# Altium schematic symbol library ST-Link V2 Connector.SchLib: 1 symbol
Pins are listed as number, name and electrical type; pins without a type are passive.

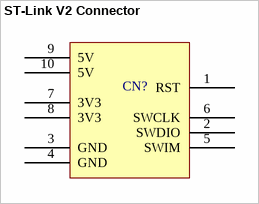
[diagram p0: symbol ST-Link V2 Connector]

## ST-Link V2 Connector
designator CN?
pins: 1 RST, 2 SWDIO, 3 GND, 4 GND, 5 SWIM, 6 SWCLK, 7 3V3, 8 3V3, 9 5V, 10 5V